# EAGLE library part CY7C63101CQXC (library cypress)
Universal Serial Bus Microcontroller Integrated USB transceiver Source: www.cypress.com .. CY7C6301XX.pdf
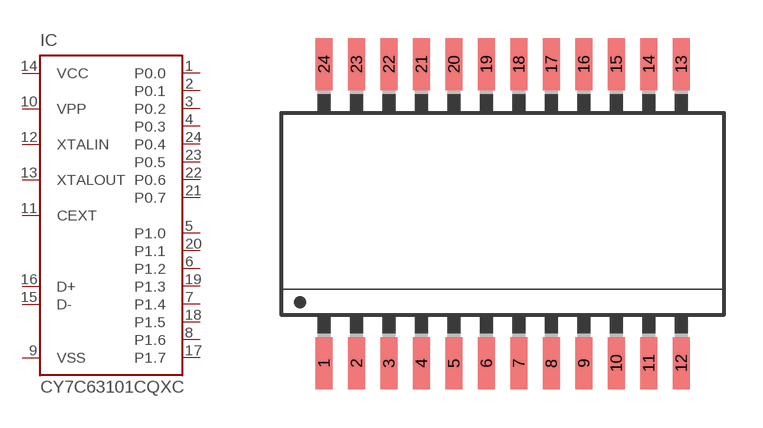
[diagram p2: symbol with the pads of QSOP24; footprint QSOP24]

Designator prefix IC

## CY7C63101CQXC (MPN: CY7C63101C-QXC; OC_FARNELL: unknown; OC_NEWARK: 19M7035)  [QSOP24]
1  P0.0
2  P0.1
3  P0.2
4  P0.3
5  P1.0
6  P1.2
7  P1.4
8  P1.6
9  VSS  pwr
10  VPP  in
11  CEXT  pas
12  XTALIN  in
13  XTALOUT  out
14  VCC  pwr
15  D-
16  D+
17  P1.7
18  P1.5
19  P1.3
20  P1.1
21  P0.7
22  P0.6
23  P0.5
24  P0.4

## Footprint QSOP24 (pad centres in mm)
24-Lead Quarter Size Outline Q13 Source: www.cypress.com .. CY7C6301XX.pdf
smd 0.66 x 2.032: 1 -6.985,-5.842; 2 -5.715,-5.842; 3 -4.445,-5.842; 4 -3.175,-5.842; 5 -1.905,-5.842; 6 -0.635,-5.842; 7 0.635,-5.842; 8 1.905,-5.842; 9 3.175,-5.842; 10 4.445,-5.842; 11 5.715,-5.842; 12 6.985,-5.842; 13 6.985,5.842; 14 5.715,5.842; 15 4.445,5.842; 16 3.175,5.842; 17 1.905,5.842; 18 0.635,5.842; 19 -0.635,5.842; 20 -1.905,5.842; 21 -3.175,5.842; 22 -4.445,5.842; 23 -5.715,5.842; 24 -6.985,5.842